# EAGLE library part ZM1325 (library nixietubes-western)
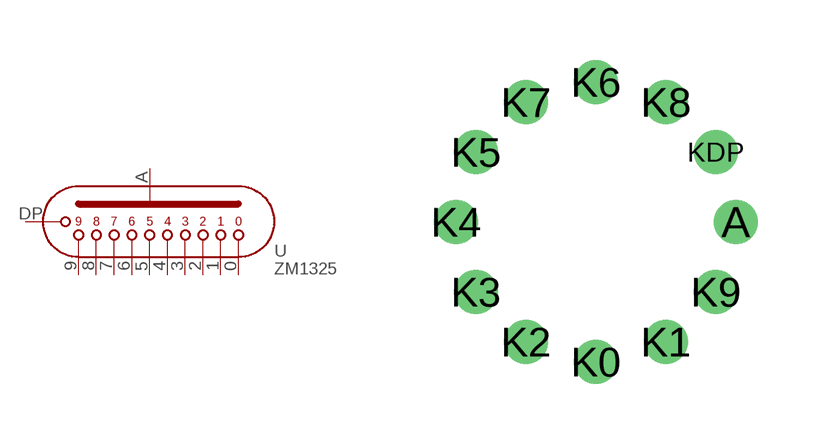
[diagram p4: symbol with the pads of ZM1325; footprint ZM1325]

Designator prefix -

## ZM1325  [ZM1325]
A  A
K0  0
K1  1
K2  2
K3  3
K4  4
K5  5
K6  6
K7  7
K8  8
K9  9
KDP  DP

## Footprint ZM1325 (pad centres in mm)
This is the footprint suitable for the following nixie tubes: * ZM1325 Tube diameter: 13mm Height from PCB: 37mm
drill 0.6: A 3.5,0; K0 0,-3.5; K1 1.75,-3; K2 -1.75,-3; K3 -3,-1.75; K4 -3.5,0; K5 -3,1.75; K6 0,3.5; K7 -1.75,3; K8 1.75,3; K9 3,-1.75; KDP 3,1.75